# Altium schematic symbol library QUTMS_Microfit.SchLib: 16 symbols
Pins are listed as number, name and electrical type; pins without a type are passive.

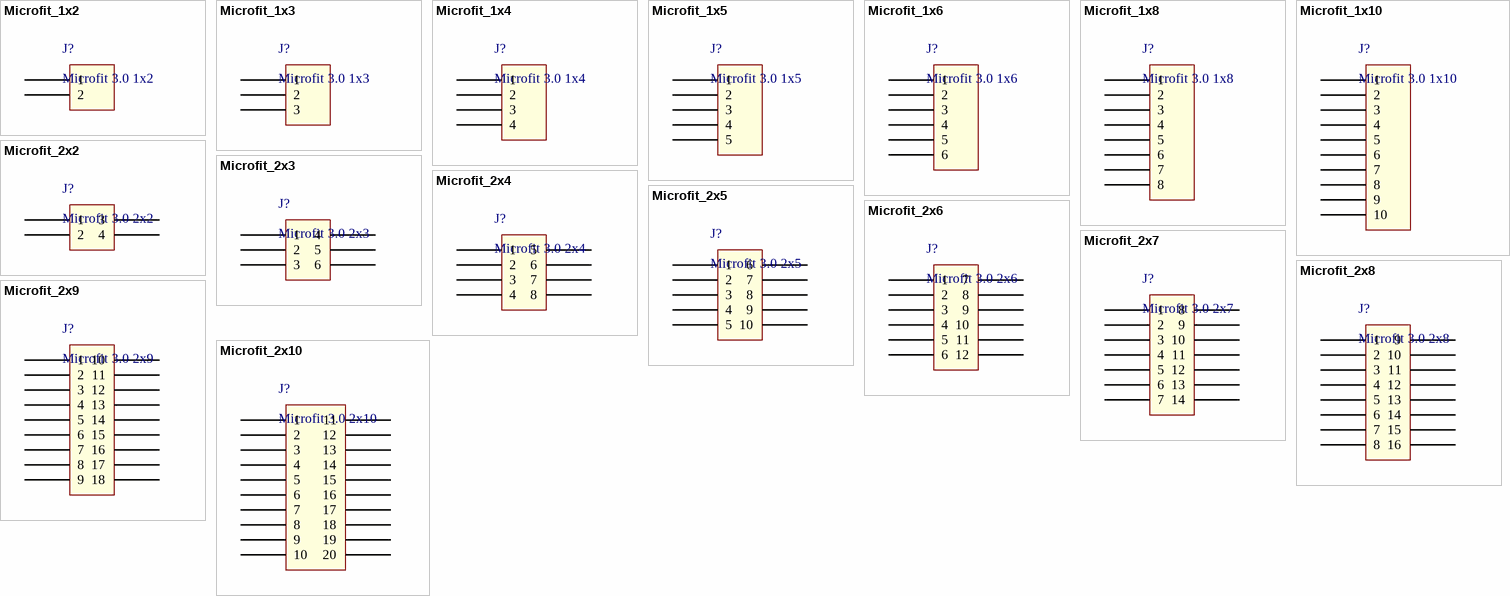
[diagram p0: symbols Microfit_1x2 to Microfit_2x10]

## Microfit_1x2
designator J?, comment Microfit 3.0 1x2
footprint Microfit_1X2_R_SMD
footprint Microfit_1X2_R_TH
footprint Microfit_1X2_V_SMD
footprint Microfit_1X2_V_TH
pins: 1, 2

## Microfit_1x3
designator J?, comment Microfit 3.0 1x3
footprint Microfit_1X3_R_SMD
footprint Microfit_1X3_R_SMD
footprint Microfit_1X3_V_SMD
footprint Microfit_1X3_V_TH
pins: 1, 2, 3

## Microfit_1x4
designator J?, comment Microfit 3.0 1x4
footprint Microfit_1X4_R_SMD
footprint Microfit_1X4_R_TH
footprint Microfit_1X4_V_SMD
footprint Microfit_1X4_V_TH
pins: 1, 2, 3, 4

## Microfit_1x5
designator J?, comment Microfit 3.0 1x5
footprint Microfit_1X5_R_SMD
footprint Microfit_1X5_R_TH
footprint Microfit_1X5_V_SMD
footprint Microfit_1X5_V_TH
pins: 1, 2, 3, 4, 5

## Microfit_1x6
designator J?, comment Microfit 3.0 1x6
footprint Microfit_1X6_R_SMD
footprint Microfit_1X6_R_TH
footprint Microfit_1X6_V_SMD
footprint Microfit_1X6_V_TH
pins: 1, 2, 3, 4, 5, 6

## Microfit_1x8
designator J?, comment Microfit 3.0 1x8
footprint Microfit_1X8_R_SMD
footprint Microfit_1X8_R_TH
footprint Microfit_1X8_V_SMD
footprint Microfit_1X8_V_TH
pins: 1, 2, 3, 4, 5, 6, 7, 8

## Microfit_1x10
designator J?, comment Microfit 3.0 1x10
footprint Microfit_1X10_R_SMD
footprint Microfit_1X10_R_TH
footprint Microfit_1X10_V_SMD
footprint Microfit_1X10_V_TH
pins: 1, 2, 3, 4, 5, 6, 7, 8, 9, 10

## Microfit_2x2
designator J?, comment Microfit 3.0 2x2
footprint Microfit_2X2_R_SMD
footprint Microfit_2X2_R_TH
footprint Microfit_2X2_V_SMD
footprint Microfit_2X2_V_TH
pins: 1, 2, 3, 4

## Microfit_2x3
designator J?, comment Microfit 3.0 2x3
footprint Microfit_2X3_R_SMD
footprint Microfit_2X3_R_TH
footprint Microfit_2X3_V_SMD
footprint Microfit_2X3_V_TH
pins: 1, 2, 3, 4, 5, 6

## Microfit_2x4
designator J?, comment Microfit 3.0 2x4
footprint Microfit_2X4_R_SMD
footprint Microfit_2X4_R_TH
footprint Microfit_2X4_V_SMD
footprint Microfit_2X4_V_TH
pins: 1, 2, 3, 4, 5, 6, 7, 8

## Microfit_2x5
designator J?, comment Microfit 3.0 2x5
footprint Microfit_2X5_R_SMD
footprint Microfit_2X5_R_TH
footprint Microfit_2X5_V_TH
footprint Microfit_2X5_V_SMD
pins: 1, 2, 3, 4, 5, 6, 7, 8, 9, 10

## Microfit_2x6
designator J?, comment Microfit 3.0 2x6
footprint Microfit_2X6_R_SMD
footprint Microfit_2X6_R_TH
footprint Microfit_2X6_V_SMD
footprint Microfit_2X6_V_TH
pins: 1, 2, 3, 4, 5, 6, 7, 8, 9, 10, 11, 12

## Microfit_2x7
designator J?, comment Microfit 3.0 2x7
footprint Microfit_2X7_R_SMD
footprint Microfit_2X7_R_TH
footprint Microfit_2X7_V_SMD
footprint Microfit_2X7_V_TH
pins: 1, 2, 3, 4, 5, 6, 7, 8, 9, 10, 11, 12, 13, 14

## Microfit_2x8
designator J?, comment Microfit 3.0 2x8
footprint Microfit_2X8_R_TH
footprint Microfit_2X8_V_SMD
footprint Microfit_2X8_R_SMD
footprint Microfit_2X8_V_TH
pins: 1, 2, 3, 4, 5, 6, 7, 8, 9, 10, 11, 12, 13, 14, 15, 16

## Microfit_2x9
designator J?, comment Microfit 3.0 2x9
footprint Microfit_2X9_R_SMD
footprint Microfit_2X9_R_TH
footprint Microfit_2X9_V_SMD
footprint Microfit_2X9_V_TH
pins: 1, 2, 3, 4, 5, 6, 7, 8, 9, 10, 11, 12, 13, 14, 15, 16, 17, 18

## Microfit_2x10
designator J?, comment Microfit 3.0 2x10
footprint Microfit_2X10_R_SMD
footprint Microfit_2X10_R_TH
footprint Microfit_2X10_V_SMD
footprint Microfit_2X10_V_TH
pins: 1, 2, 3, 4, 5, 6, 7, 8, 9, 10, 11, 12, 13, 14, 15, 16, 17, 18, 19, 20